# Altium schematic symbol library SRD-03VDC-SL-C.SchLib: 1 symbol
Pins are listed as number, name and electrical type; pins without a type are passive.

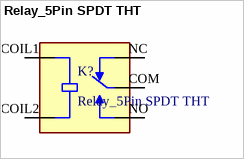
[diagram p0: symbol Relay_5Pin SPDT THT]

## Relay_5Pin SPDT THT
designator K?
Relays General Purpose Non Latching 3VDC SPDT 10A (250VAC) Max 5PIN SRD-03VDC-SL-C; MF: Songle Relay; SnapEDA_Link: https://www.snapeda.com/parts/SRD-03VDC-SL-C/Songle+Relay/view-part/?ref=snap; Package: NON STANDARD-5 Songle Relay; Value: *; MP: SRD-03VDC-SL-C; Check_prices: https://www.snapeda.com/parts/SRD-03VDC-SL-C/Songle+Relay/view-part/?ref=eda
footprint RELAY_SRD-03VDC-SL-C
pins: COIL1, COIL2, COM, NC, NO